# Altium schematic symbol library TIDA-01415.SCHLIB: 74 symbols (part 2 of 2)
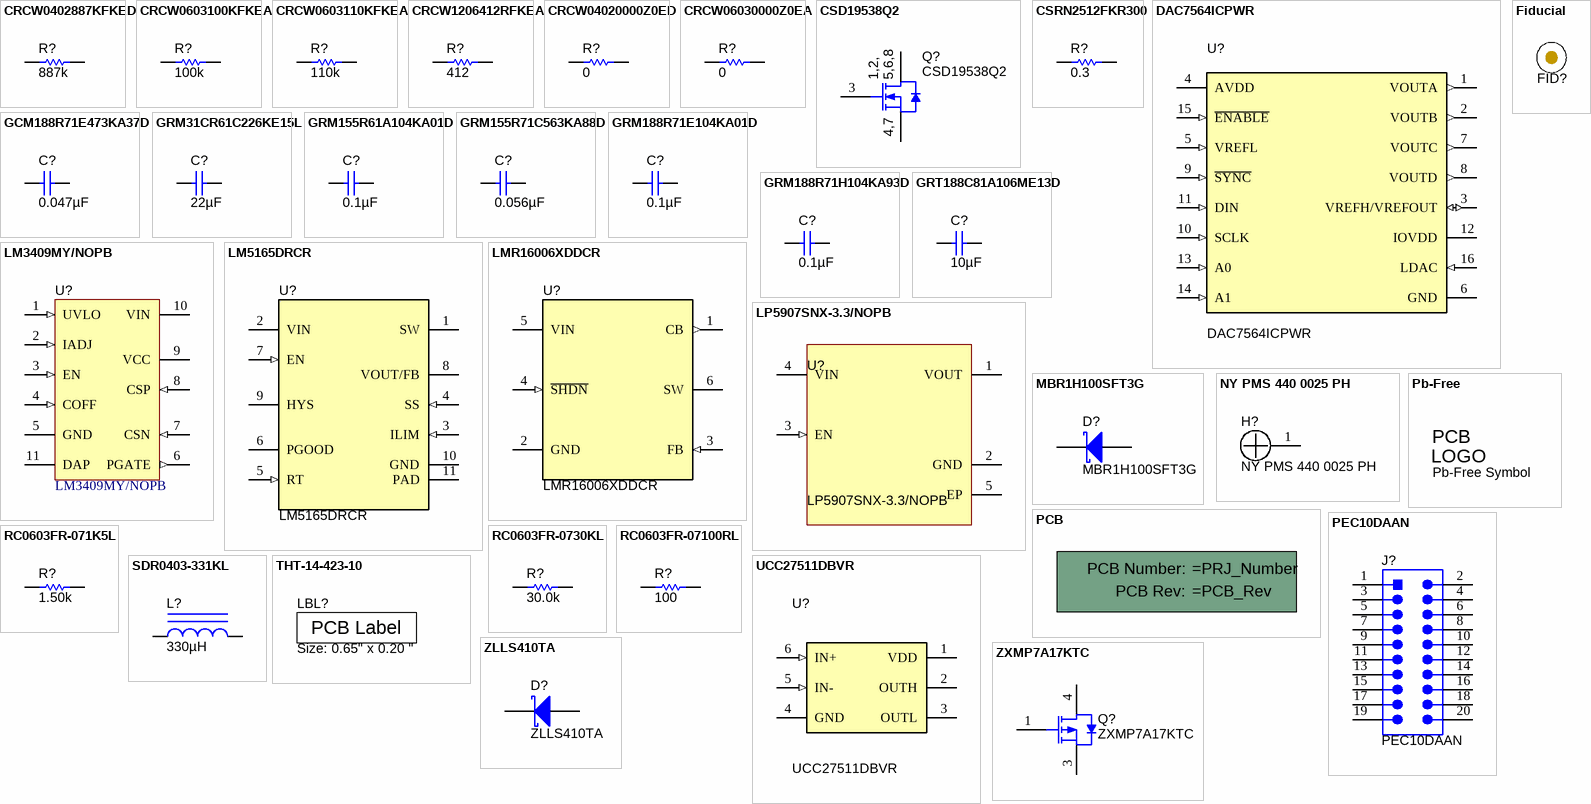
[diagram p2: symbols CRCW0402887KFKED to ZXMP7A17KTC]

## GRM31CR61C226KE15L
designator C?  ValueDisplayed: 22µF  (hidden comment: GRM31CR61C226KE15L)
CAP, CERM, 22 µF, 16 V, +/- 10%, X5R, 1206; Manufacturer: MuRata; Polarized: N; CompType: Capacitor; Value: 22uF; U/M: EA; Cap_F: 0.000022; Tolerance_%: 10; Value1: Unknown; VDC_V: 16; Value2: 16V; TaMin_C: -55; TaMax_C: 85; Cap_Case: 1206; SizeArea_mm2: 5.12; SizeAreaWB_mm2: 10.92; SizeX_mm: 3.2; SizeY_mm: 1.6; SizeZ_mm: 1.8; AEC Category: Q200; SymbolVersion: 2008-07-09; PartNumber: GRM31CR61C226KE15L; PackageReference: 1206; RoHS: Y; MountType: SMT; Technology: Ceramic; TempCo: X5R; Published: 2008-06-19; Publisher: Texas Instruments; LatestRevisionDate: 2016-10-05; ComponentLink1Description: Datasheet link; ComponentLink1URL: http://search.murata.co.jp/Ceramy/PnsearchViewAction.do?HnOFG=ON&HnNFG=ON&SEL_CNT=50&sLang=en&sKey=GRM31CR61C226KE15L&x=9&y=9&search=startwith; Supplier 1: Digi-Key; Supplier Part Number 1: GRM31CR61C226KE15L-ND; Supplier 2: Mouser; Supplier Part Number 2: 81-GRM31CR61C226KE5L; Supplier 3: Farnell; Supplier Part Number 3: 1828815; AEC Qualified: ?
signal-integrity model Cap
simulation model Cap
footprint 1206_180
footprint 1206_180M
footprint 1206_180L
pins: 1, 2

## GRM155R61A104KA01D
designator C?  ValueDisplayed: 0.1µF  (hidden comment: GRM155R61A104KA01D)
CAP, CERM, 0.1 µF, 10 V, +/- 10%, X5R, 0402; Manufacturer: MuRata; Polarized: N; CompType: Capacitor; Value: 0.1uF; U/M: EA; Cap_F: 0.0000001; Tolerance_%: 10; Value1: Unknown; Value2: 10V; TaMin_C: -55; TaMax_C: 85; Cap_Case: 0402; SizeArea_mm2: 0.5; SizeAreaWB_mm2: 3; SizeX_mm: 1; SizeZ_mm: 0.6; AEC Category: Q200; SymbolVersion: 2008-07-09; PartNumber: GRM155R61A104KA01D; PackageReference: 0402; RoHS: Y; VDC_V: 10; MountType: SMT; Technology: Ceramic; TempCo: X5R; SizeY_mm: 0.5; Published: 2008-06-19; Publisher: Texas Instruments; LatestRevisionDate: 2017-01-30; ComponentLink1Description: Datasheet link; ComponentLink1URL: http://search.murata.co.jp/Ceramy/PnsearchViewAction.do?HnOFG=ON&HnNFG=ON&SEL_CNT=50&sLang=en&sKey=GRM155R61A104KA01D&x=9&y=9&search=startwith; Supplier 1: Digi-Key; Supplier Part Number 1: 490-1318-1-ND; Supplier 2: Mouser; Supplier Part Number 2: 81-GRM155R61A104KA01; Supplier 3: Farnell; Supplier Part Number 3: 1828862; AEC Qualified: ?
signal-integrity model Cap
simulation model Cap
footprint 0402
footprint 0402M
footprint 0402L
footprint 0402S
pins: 1, 2

## GRM155R71C563KA88D
designator C?  ValueDisplayed: 0.056µF  (hidden comment: GRM155R71C563KA88D)
CAP, CERM, 0.056 µF, 16 V, +/- 10%, X7R, 0402; Manufacturer: MuRata; Polarized: N; CompType: Capacitor; Value: 0.056uF; U/M: EA; Cap_F: 0.000000056; Tolerance_%: 10; Value1: Unknown; VDC_V: 16; Value2: 16V; TaMin_C: -55; TaMax_C: 125; Cap_Case: 0402; SizeArea_mm2: 0.5; SizeAreaWB_mm2: 3; SizeX_mm: 1; SizeZ_mm: 0.6; AEC Category: Q200; SymbolVersion: 2008-07-09; PartNumber: GRM155R71C563KA88D; PackageReference: 0402; RoHS: Y; MountType: SMT; Technology: Ceramic; TempCo: X7R; SizeY_mm: 0.5; Published: 2008-06-19; Publisher: Texas Instruments; LatestRevisionDate: 2016-10-05; ComponentLink1Description: Datasheet link; ComponentLink1URL: http://search.murata.co.jp/Ceramy/PnsearchViewAction.do?HnOFG=ON&HnNFG=ON&SEL_CNT=50&sLang=en&sKey=GRM155R71C563KA88D&x=9&y=9&search=startwith; Supplier 1: Digi-Key; Supplier Part Number 1: GRM155R71C563KA88D-ND; Supplier 2: Mouser; Supplier Part Number 2: 81-GRM155R71C563KA8D; AEC Qualified: ?
signal-integrity model Cap
simulation model Cap
footprint 0402
footprint 0402M
footprint 0402L
footprint 0402S
pins: 1, 2

## GRM188R71E104KA01D
designator C?  ValueDisplayed: 0.1µF  (hidden comment: GRM188R71E104KA01D)
CAP, CERM, 0.1 µF, 25 V, +/- 10%, X7R, 0603; Manufacturer: MuRata; Polarized: N; CompType: Capacitor; Value: 0.1uF; U/M: EA; Cap_F: 0.0000001; Tolerance_%: 10; Value1: Unknown; VDC_V: 25; Value2: 25V; TaMin_C: -55; TaMax_C: 125; Cap_Case: 0603; SizeArea_mm2: 1.28; SizeAreaWB_mm2: 4.68; SizeX_mm: 1.6; SizeY_mm: 0.8; SizeZ_mm: 1; AEC Category: Q200; SymbolVersion: 2008-07-09; PartNumber: GRM188R71E104KA01D; PackageReference: 0603; RoHS: Y; MountType: SMT; Technology: Ceramic; TempCo: X7R; Published: 2008-06-19; Publisher: Texas Instruments; LatestRevisionDate: 2017-01-30; ComponentLink1Description: Datasheet link; ComponentLink1URL: http://search.murata.co.jp/Ceramy/PnsearchViewAction.do?HnOFG=ON&HnNFG=ON&SEL_CNT=50&sLang=en&sKey=GRM188R71E104KA01D&x=9&y=9&search=startwith; Supplier 1: Digi-Key; Supplier Part Number 1: 490-1524-1-ND; Supplier 2: Mouser; Supplier Part Number 2: 81-GRM39X104K25; Supplier 3: Farnell; Supplier Part Number 3: 1828899; AEC Qualified: ?
signal-integrity model Cap
simulation model Cap
footprint 0603
footprint 0603M
footprint 0603L
footprint 0603_HV
footprint 0603S
pins: 1, 2

## GRM188R71H104KA93D
designator C?  ValueDisplayed: 0.1µF  (hidden comment: GRM188R71H104KA93D)
CAP, CERM, 0.1 µF, 50 V, +/- 10%, X7R, 0603; Manufacturer: MuRata; Polarized: N; CompType: Capacitor; Value: 0.1uF; U/M: EA; Cap_F: 0.0000001; Tolerance_%: 10; Value1: Unknown; VDC_V: 50; Value2: 50V; TaMin_C: -55; TaMax_C: 125; Cap_Case: 0603; SizeArea_mm2: 1.28; SizeAreaWB_mm2: 4.68; SizeX_mm: 1.6; SizeY_mm: 0.8; SizeZ_mm: 1; AEC Category: Q200; SymbolVersion: 2008-07-09; PartNumber: GRM188R71H104KA93D; PackageReference: 0603; RoHS: Y; MountType: SMT; Technology: Ceramic; TempCo: X7R; Published: 2008-06-19; Publisher: Texas Instruments; LatestRevisionDate: 2017-02-09; ComponentLink1Description: Datasheet link; ComponentLink1URL: http://search.murata.co.jp/Ceramy/PnsearchViewAction.do?HnOFG=ON&HnNFG=ON&SEL_CNT=50&sLang=en&sKey=GRM188R71H104KA93D&x=9&y=9&search=startwith; Supplier 1: Digi-Key; Supplier Part Number 1: 490-1519-1-ND; Supplier 2: Mouser; Supplier Part Number 2: 81-GRM39X104K50D; Supplier 3: Farnell; Supplier Part Number 3: 8820023; AEC Qualified: ?
signal-integrity model Cap
simulation model Cap
footprint 0603
footprint 0603M
footprint 0603L
footprint 0603_HV
footprint 0603S
pins: 1, 2

## GRT188C81A106ME13D
designator C?  ValueDisplayed: 10µF  (hidden comment: GRT188C81A106ME13D)
CAP, CERM, 10 µF, 10 V, +/- 20%, X6S, AEC-Q200 Grade 2, 0603; Manufacturer: MuRata; Polarized: N; CompType: Capacitor; Value: 10uF; U/M: EA; Cap_F: 0.00001; Tolerance_%: 20; Value1: Unknown; VDC_V: 10; Value2: 10V; TaMin_C: -55; TaMax_C: 105; Cap_Case: 0603; SizeArea_mm2: 1.28; SizeAreaWB_mm2: 4.68; SizeX_mm: 1.6; SizeY_mm: 0.8; SizeZ_mm: 1; AEC Category: Q200; AEC Qualified: Y; AEC Grade: 2; SymbolVersion: 2008-07-09; PartNumber: GRT188C81A106ME13D; PackageReference: 0603; RoHS: Y; MountType: SMT; Technology: Ceramic; TempCo: X6S; Published: 2008-06-19; Publisher: Texas Instruments; LatestRevisionDate: 2017-01-30; ComponentLink1Description: Datasheet link; ComponentLink1URL: http://search.murata.co.jp/Ceramy/image/img/A01X/G101/ENG/GRT188C81A106ME13-01.pdf; Supplier 1: Digi-Key; Supplier Part Number 1: 490-12283-1-ND; Supplier 2: Mouser; Supplier Part Number 2: 81-GRT188C81A106ME3D
signal-integrity model Cap
simulation model Cap
footprint 0603
footprint 0603M
footprint 0603L
footprint 0603_HV
footprint 0603S
pins: 1, 2

## LM3409MY/NOPB
designator U?
PFET Buck Controller for High Power LED Drives, 10-pin eMSOP, Pb-Free; Manufacturer: Texas Instruments; PackageTopMarking: ZXTT*SXFB; PowerWise: Y; CompType: MiscPower; Published: 1-Mar-2010; LatestRevisionDate: 01-Oct-2010; LatestRevisionNote: Updated datasheet to version Apr-2010.; DatasheetVersion: Apr-2010; PackageVersion: revA, May-2006; PackageReference: MUC10A; Publisher: Altium Limited; PackageDescription: Molded Mini-SO, Exposed Pad .118 x .118 x .034in Body, 10 Lead, .0197in Pitch; Supplier 1: Digi-Key; Supplier Part Number 1: LM3409MYTR-ND; Supplier 2: Digi-Key; Supplier Part Number 2: LM3409MYCT-ND; Supplier 3: Digi-Key; Supplier Part Number 3: LM3409MYDKR-ND; Supplier 4: Farnell; Supplier Part Number 4: 1735797; PartNumber: LM3409MY/NOPB; RoHS: Y; PinCount: 10; Code_JEDEC: MO-187-BAT; ComponentLink1Description: LM3409 Datasheet; ComponentLink1URL: http://www.national.com/ds/LM/LM3409.pdf; ComponentLink2Description: LM3409 Web Page; ComponentLink2URL: http://www.national.com/pf/LM/LM3409.html; ComponentLink3Description: MUC10A Package Page; ComponentLink3URL: http://www.national.com/packaging/folders/muc10a.html
footprint MUC10A_N (TSSOP, 10-Leads, Body 3x3mm, Pitch 0.5mm, Exposed Pad, IPC Medium Density)
footprint MUC10A_L (TSSOP, 10-Leads, Body 3x3mm, Pitch 0.5mm, Exposed Pad, IPC High Density)
footprint MUC10A_M (TSSOP, 10-Leads, Body 3x3mm, Pitch 0.5mm, Exposed Pad, IPC Low Density)
pins: 1 UVLO (in) "Input under-voltage lockout", 2 IADJ (in) "Analog LED current adjust", 3 EN (in) "Logic level enable / PWM dimming", 4 COFF (in) "Off-time programming", 5 GND (power) "Ground", 6 PGATE (out) "Gate drive", 7 CSN (in) "Negative current sense", 8 CSP (in) "Positive current sense", 9 VCC (power) "VIN- referenced linear regulator output", 10 VIN (power) "Input voltage", 11 DAP (power) "Thermal pad on bottom of IC"

## LM5165DRCR
designator U?
3V-65V, 150mA Synchronous Buck Converter With Ultra-Low IQ, DRC0010J (VSON-10); Alternate PartNumber: LM5165DRCT; Manufacturer: Texas Instruments; SymbolCreator: Altium; SizeArea_mm2: 9; SizeAreaWB_mm2: 16; SizeX_mm: 3; SizeZ_mm: 1; CompType: IC; U/M: EA; SymbolVersion: 2015-04-10; PartNumber: LM5165DRCR; PackageReference: DRC0010J; PackageDescription: VSON-10; MountType: SMT; SizeY_mm: 3; ComponentLink1Description: Datasheet Link; ComponentLink1URL: http://www.ti.com/lit/ds/symlink/lm5165.pdf; Publisher: Texas Instruments; LatestRevisionDate: 2016-10-05; Alternate Manufacturer: Texas Instruments
footprint DRC0010J
footprint DRC0010J_NV
pins: 1 SW (power), 2 VIN (power), 3 ILIM (in), 4 SS (in), 5 RT (in), 6 PGOOD (oc), 7 EN (in), 8 VOUT/FB, 9 HYS, 10 GND (power), 11 PAD (power)
1 alternate drawing of the same symbol

## LMR16006XDDCR
designator U?
Wide Input Voltage Range Buck Regulator with High Efficiency Sleep Mode, DDC0006A (SOT-6); Alternate PartNumber: LMR16006XDDCT; Manufacturer: Texas Instruments; SymbolCreator: x0208326; SizeArea_mm2: 4.8675; SizeAreaWB_mm2: 10.4675; SizeX_mm: 1.65; SizeY_mm: 2.95; SizeZ_mm: 0.87; CompType: IC; U/M: EA; SymbolVersion: 2016-3-1; PartNumber: LMR16006XDDCR; PackageReference: DDC0006A; PackageDescription: SOT-6; MountType: SMT; ComponentLink1Description: Datasheet Link; ComponentLink1URL: http://www.ti.com/lit/ds/symlink/lmr16006.pdf; RoHS: Y; Publisher: Texas Instruments; LatestRevisionDate: 2016-10-04; Alternate Manufacturer: Texas Instruments
footprint DDC0006A_N
footprint DDC0006A_M
footprint DDC0006A_L
pins: 1 CB (out), 2 GND (power), 3 FB (in), 4 ~{SHDN} (in), 5 VIN (power), 6 SW (power)

## LP5907SNX-3.3/NOPB
designator U?
250-mA Ultra-Low-Noise, Low-IQ LDO, DQN0004A (X2SON-4); Manufacturer: Texas Instruments; SymbolCreator: Altium; SizeArea_mm2: 1; SizeAreaWB_mm2: 4; SizeZ_mm: 0.4; CompType: IC; U/M: EA; SymbolVersion: 2014-08-06; PartNumber: LP5907SNX-3.3/NOPB; PackageReference: DQN0004A; PackageDescription: X2SON-4; MountType: SMT; SizeX_mm: 1; SizeY_mm: 1; ComponentLink1Description: Datasheet Link; ComponentLink1URL: http://www.ti.com/lit/ds/symlink/lp5907.pdf; RoHS: Y; Publisher: Texas Instruments; LatestRevisionDate: 2017-02-06; Alternate Manufacturer: Texas Instruments
footprint DQN0004A
pins: 1 VOUT (power) "Output voltage. A 1-uF Low ESR capacitor should be connected to this pin. Connect this output to the load circuit. An internal 280 Ohm discharge resistor prevents a charge remaining on VOUT when VEN is low.", 2 GND (power) "Common ground", 3 EN (in) "Enable input", 4 VIN (power) "Input voltage supply. A 1-µF capacitor should be connected at this input.", 5 EP (power) "Thermal pad for X2SON package, connect to GND or Floating"
1 alternate drawing of the same symbol

## MBR1H100SFT3G
designator D?
Diode, Schottky, 100 V, 1 A, SOD-123FL; Manufacturer: ON Semiconductor; U/M: EA; Vf_V: 0.76; Value: 100V; Value1: 1A; Value2: 0.76V; Io_A: 1; Vr_V: 100; TJmax_C: 175; RJC_CperW: 85; SizeAreaWB_mm2: 12.19; SizeArea_mm2: 5.94; SizeX_mm: 3.6; SizeY_mm: 1.65; SizeZ_mm: 0.98; AEC Category: Q101; CompType: Diode; SymbolVersion: 2008-12-08; PartNumber: MBR1H100SFT3G; PackageReference: SOD-123FL; MountType: SMT; Type: Schottky; RoHS: Y; Published: 2008-06-26; Publisher: Texas Instruments; LatestRevisionDate: 2016-09-30; ComponentLink1Description: Datasheet link; ComponentLink1URL: http://www.onsemi.com/pub_link/Collateral/MBR1H100SF-D.PDF; Supplier 1: Digi-Key; Supplier Part Number 1: MBR1H100SFT3GOSCT-ND; Supplier 2: Mouser; Supplier Part Number 2: 863-MBR1H100SFT3G; AEC Qualified: ?
signal-integrity model Diode
footprint SOD-123FL
pins: 1 K, 2 A

## NY PMS 440 0025 PH
designator H?
Machine Screw, Round, #4-40 x 1/4, Nylon, Philips panhead; Manufacturer: B&F Fastener Supply; CompType: Hardware; SymbolCreator: codlsc; U/M: EA; SymbolVersion: 2009-10-28; MountType: N/A; RoHS: Y; PartNumber: NY PMS 440 0025 PH; PackageReference: Screw; DigiKeyPartNumber: H542-ND; ComponentLink1Description: Datasheet Link; ComponentLink1URL: http://www.fasnetdirect.com/refguide/Nylpanms.pdf; ClassName: Mounting Holes; LatestRevisionDate: 2015-07-23; Publisher: Texas Instruments; Supplier 1: Digi-Key; Supplier Part Number 1: H542-ND
footprint NY PMS 440 0025 PH
footprint NY PMS 440 0025 PH_3Donly
pins: 1

## Pb-Free
designator Logo?, comment Pb-Free Symbol  (no BOM)
SymbolCreator: a0412235; SymbolVersion: 2011-08-22; Published: 2009-03-03; Publisher: Texas Instruments; LatestRevisionDate: 2014-08-05
footprint Pb-Free_Overlay_Medium
footprint Pb-Free_Overlay_Small
text: PCB; LOGO

## PCB
designator !PCB?, comment Printed Circuit Board  (value not drawn)  (mechanical)
Manufacturer: Any; SymbolCreator: a0412235; CompType: PCB; SymbolVersion: 2012-05-30; PartNumber: =PRJ_Number; RoHS: O; MountType: N/A; Publisher: Texas Instruments; LatestRevisionDate: 2012-06-27; LatestRevisionNote: Initial Version; Alternate Manufacturer: -; Alternate PartNumber: -
1 alternate drawing of the same symbol
text: PCB Number:; PCB Rev:

## PEC10DAAN
designator J?
Header, 100mil, 10x2, TH; Manufacturer: Sullins Connector Solutions; SymbolCreator: a0412235; SymbolVersion: 2013-09-12; PartNumber: PEC10DAAN; PackageReference: Header, 10x2, 2.54mm, TH; ClassName: Header; CompType: Header; RoHS: Y; MountType: TH; ComponentLink1Description: Datasheet URL; ComponentLink1URL: http://www.sullinscorp.com/drawings/97_G_C___D___N,_P_C___D___N,_STRAIGHT,_C10419.pdf; Publisher: Texas Instruments; LatestRevisionDate: 2017-02-02; Supplier 1: Digi-Key; Supplier Part Number 1: S2012E-10-ND
footprint SULLINS_PEC10DAAN
pins: 1, 2, 3, 4, 5, 6, 7, 8, 9, 10, 11, 12, 13, 14, 15, 16, 17, 18, 19, 20

## RC0603FR-071K5L
designator R?  ValueDisplayed: 1.50k  (hidden comment: RC0603FR-071K5L)
RES, 1.50 k, 1%, 0.1 W, 0603; Manufacturer: Yageo America; CompType: Resistor; Value: 1.50k; Res_ohm: 1500; Value_Code: 1k50; Tolerance_%: 1; Power_W: 0.1; Value2: 0.1W; VDC_V: 150; TempCo: 200 ppm/C; SizeArea_mm2: 1.28; SizeX_mm: 1.6; SizeY_mm: 0.8; EIA_Code: E96; U/M: EA; AEC Category: Q200; SymbolVersion: 2009-05-29; PartNumber: RC0603FR-071K5L; PackageReference: 0603; RoHS: Y; Value1: 1%; MountType: SMT; Technology: Thick Film; SizeZ_mm: 1; Published: 2008-06-26; Publisher: Texas Instruments; LatestRevisionDate: 2017-01-27; ComponentLink1Description: Datasheet link; ComponentLink1URL: http://www.yageo.com/pdf/Pu-RC0603_51_PbFree_L_2.pdf; Supplier 1: Digi-Key; Supplier Part Number 1: 311-1.50KHRCT-ND; Supplier 2: Newark; Supplier 3: Mouser; Supplier Part Number 3: 603-RC0603FR-071K5L; AEC Qualified: ?
signal-integrity model Resistor
simulation model Resistor
footprint 0603
footprint 0603M
footprint 0603L
footprint 0603_HV
footprint 0603S
pins: 1, 2

## RC0603FR-0730KL
designator R?  ValueDisplayed: 30.0k  (hidden comment: RC0603FR-0730KL)
RES, 30.0 k, 1%, 0.1 W, 0603; Manufacturer: Yageo America; CompType: Resistor; Value: 30.0k; Res_ohm: 30000; Value_Code: 30k0; Tolerance_%: 1; Power_W: 0.1; Value2: 0.1W; VDC_V: 150; TempCo: 200 ppm/C; SizeArea_mm2: 1.28; SizeX_mm: 1.6; SizeY_mm: 0.8; U/M: EA; AEC Category: Q200; SymbolVersion: 2009-05-29; PartNumber: RC0603FR-0730KL; PackageReference: 0603; RoHS: Y; Value1: 1%; MountType: SMT; Technology: Thick Film; SizeZ_mm: 1; Published: 2008-06-26; Publisher: Texas Instruments; LatestRevisionDate: 2017-01-27; ComponentLink1Description: Datasheet link; ComponentLink1URL: http://www.yageo.com/pdf/Pu-RC0603_51_PbFree_L_2.pdf; Supplier 1: Digi-Key; Supplier Part Number 1: 311-30.0KHRCT-ND; Supplier 2: Newark; Supplier 3: Mouser; Supplier Part Number 3: 603-RC0603FR-0730KL; AEC Qualified: ?
signal-integrity model Resistor
simulation model Resistor
footprint 0603
footprint 0603M
footprint 0603L
footprint 0603_HV
footprint 0603S
pins: 1, 2

## RC0603FR-07100RL
designator R?  ValueDisplayed: 100  (hidden comment: RC0603FR-07100RL)
RES, 100, 1%, 0.1 W, 0603; Manufacturer: Yageo America; CompType: Resistor; Value: 100; Value_Code: 100R; Tolerance_%: 1; Power_W: 0.1; Value2: 0.1W; VDC_V: 150; TempCo: 200 ppm/C; SizeArea_mm2: 1.28; SizeX_mm: 1.6; SizeY_mm: 0.8; EIA_Code: E96; U/M: EA; AEC Category: Q200; SymbolVersion: 2009-05-29; PartNumber: RC0603FR-07100RL; PackageReference: 0603; RoHS: Y; Res_ohm: 100; Value1: 1%; MountType: SMT; Technology: Thick Film; SizeZ_mm: 1; Published: 2008-06-26; Publisher: Texas Instruments; LatestRevisionDate: 2017-01-27; ComponentLink1Description: Datasheet link; ComponentLink1URL: http://www.yageo.com/pdf/Pu-RC0603_51_PbFree_L_2.pdf; Supplier 1: Digi-Key; Supplier Part Number 1: 311-100HRCT-ND; Supplier 2: Newark; Supplier 3: Mouser; Supplier Part Number 3: 603-RC0603FR-07100RL; AEC Qualified: ?
signal-integrity model Resistor
simulation model Resistor
footprint 0603
footprint 0603M
footprint 0603L
footprint 0603_HV
footprint 0603S
pins: 1, 2

## SDR0403-331KL
designator L?  ValueDisplayed: 330µH  (hidden comment: SDR0403-331KL)
Inductor, Drum Core, Ferrite, 330 µH, 0.17 A, 6 ohm, SMD; Manufacturer: Bourns; Value: 330uH; Ind_H: 330.0E-6; Imax_A: 0.17; Irms: 0.17A @ 40C rise; Isat: 0.25A @ 10% inductance drop; DCR_ohm: 6; Value1: 6 ohm; Value2: 0.17A; SizeAreaWB_mm2: 27.5; SizeArea_mm2: 18; SizeX_mm: 4.5; SizeY_mm: 4; SizeZ_mm: 3.2; AEC Category: Q200; SymbolVersion: 2008-07-23; CompType: Inductor; PartNumber: SDR0403-331KL; Technology: Drum Core; MountType: SMT; Material: Ferrite; PackageReference: 4.5x3.2x4mm; Published: 2008-06-26; Publisher: Texas Instruments; LatestRevisionDate: 2016-09-11; ComponentLink1Description: Datasheet link; ComponentLink1URL: http://www.bourns.com/data/global/pdfs/SDR0403.pdf; RoHS: Y; Supplier 1: Farnell; Supplier Part Number 1: 1827992; AEC Qualified: ?
signal-integrity model Inductor
simulation model Inductor
footprint SDR0403
pins: 1, 2

## THT-14-423-10
designator LBL?, comment Size: 0.65" x 0.20 "
Thermal Transfer Printable Labels, 0.650" W x 0.200" H - 10,000 per roll; Manufacturer: Brady; PartNumber: THT-14-423-10; SymbolCreator: a0412235; CompType: Label; SymbolVersion: 2012-06-12; ClassName: Label; RoHS: Y; PackageReference: PCB Label 0.650"H x 0.200"W; MountType: N/A; ComponentLink1Description: Web Page; ComponentLink1URL: http://www.bradyid.com/bradyid/pdpv/THT-14-423-10.html; Note: Size: 0.65" x 0.20 "; Publisher: Texas Instruments; LatestRevisionDate: 2012-07-31; LatestRevisionNote: Initial Version; Alternate Manufacturer: -; Alternate PartNumber: -; Supplier 1: Farnell; Supplier Part Number 1: 2065596; Supplier 2: Newark; Supplier Part Number 2: 97C5133
footprint Label_650x200
text: PCB Label

## UCC27511DBVR
designator U?
Single-Channel High-Speed Low-Side Gate Driver (with 4-A Peak Source and 8-A Peak Sink), DBV0006A (SOT-6); Alternate PartNumber: UCC27511DBVT; Manufacturer: Texas Instruments; SymbolCreator: a0411947; SizeArea_mm2: 8.12; SizeAreaWB_mm2: 14.82; SizeX_mm: 2.8; SizeY_mm: 2.9; SizeZ_mm: 1.45; CompType: IC; U/M: EA; SymbolVersion: 2016-2-18; PartNumber: UCC27511DBVR; PackageReference: DBV0006A; PackageDescription: SOT-6; MountType: SMT; ComponentLink1Description: Datasheet Link; ComponentLink1URL: http://www.ti.com/lit/ds/symlink/ucc27511.pdf; RoHS: Y; Publisher: Texas Instruments; LatestRevisionDate: 2016-10-04; Alternate Manufacturer: Texas Instruments
footprint DBV0006A_N
footprint DBV0006A_M
footprint DBV0006A_L
pins: 1 VDD (power), 2 OUTH (power), 3 OUTL (power), 4 GND (power), 5 IN- (in), 6 IN+ (in)
1 alternate drawing of the same symbol

## ZLLS410TA
designator D?
Diode, Schottky, 10 V, 0.75 A, SOD-323; Manufacturer: Diodes Inc.; U/M: EA; Value: 10V; Value1: 0.75A; Io_A: 0.75; Vr_V: 10; TJmax_C: 150; SizeAreaWB_mm2: 8.695; SizeArea_mm2: 3.645; SizeX_mm: 2.7; SizeY_mm: 1.35; SizeZ_mm: 1; AEC Category: Q101; AEC Qualified: N; CompType: Diode; SymbolVersion: 2008-12-08; PartNumber: ZLLS410TA; PackageReference: SOD-323; Value2: V; MountType: SMT; Type: Schottky; RoHS: Y; Published: 2008-06-26; Publisher: Texas Instruments; LatestRevisionDate: 2017-01-28; ComponentLink1Description: Datasheet link; ComponentLink1URL: http://www.diodes.com/_files/datasheets/ZLLS410.pdf; Supplier 1: Digi-Key; Supplier Part Number 1: ZLLS410CT-ND; Supplier 2: Mouser; Supplier Part Number 2: 522-ZLLS410TA; Supplier 3: Farnell; Supplier Part Number 3: 1843764
signal-integrity model Diode
footprint SOD-323
pins: 1 K, 2 A

## ZXMP7A17KTC
designator Q?
MOSFET, P-CH, -70 V, -5.7 A, DPAK; Manufacturer: Diodes Inc.; Alternate Manufacturer: None; U/M: EA; ChType: P; Value: -70V; Value1: 0.25 ohm; Rdson45_ohm: 0.25; Value2: 18 nC; QgTyp_nC: 18; Vgs_V: -20; SizeAreaWB_mm2: 101.7114; SizeArea_mm2: 64.8114; SizeX_mm: 9.91; SizeY_mm: 6.54; SizeZ_mm: 2.29; AEC Category: Q101; AEC Qualified: N; SymbolVersion: 2008-07-09; PartNumber: ZXMP7A17KTC; PackageReference: DPAK; CompType: MOSFET; VdsMax_V: -70; IdsMax_A: -5.7; RoHS: Y; MountType: SMT; Published: 2008-06-19; Publisher: Texas Instruments; LatestRevisionDate: 2017-04-13; LatestRevisionNote: Added parts.; ComponentLink1Description: Datasheet link; ComponentLink1URL: https://www.diodes.com/assets/Datasheets/ZXMP7A17K.pdf; Supplier 1: Digi-Key; Supplier Part Number 1: ZXMP7A17KCT-ND; Supplier 2: Mouser; Supplier Part Number 2: 522-ZXMP7A17KTC
footprint DPAK
pins: 1 G, 3 S, 4 D